# Altium footprint library Conn.Misc.PcbLib: 57 footprints (part 4 of 4)
Each footprint in its own frame and in the unit in brackets; x right, y up, seen from the top. Pads: shape width x height; smd on the part's side, far side on the other; paste and mask are expansions set on the pad; w line width, h text height; cw(c..) or ccw(c..) is an arc to the next point about the centre after c.
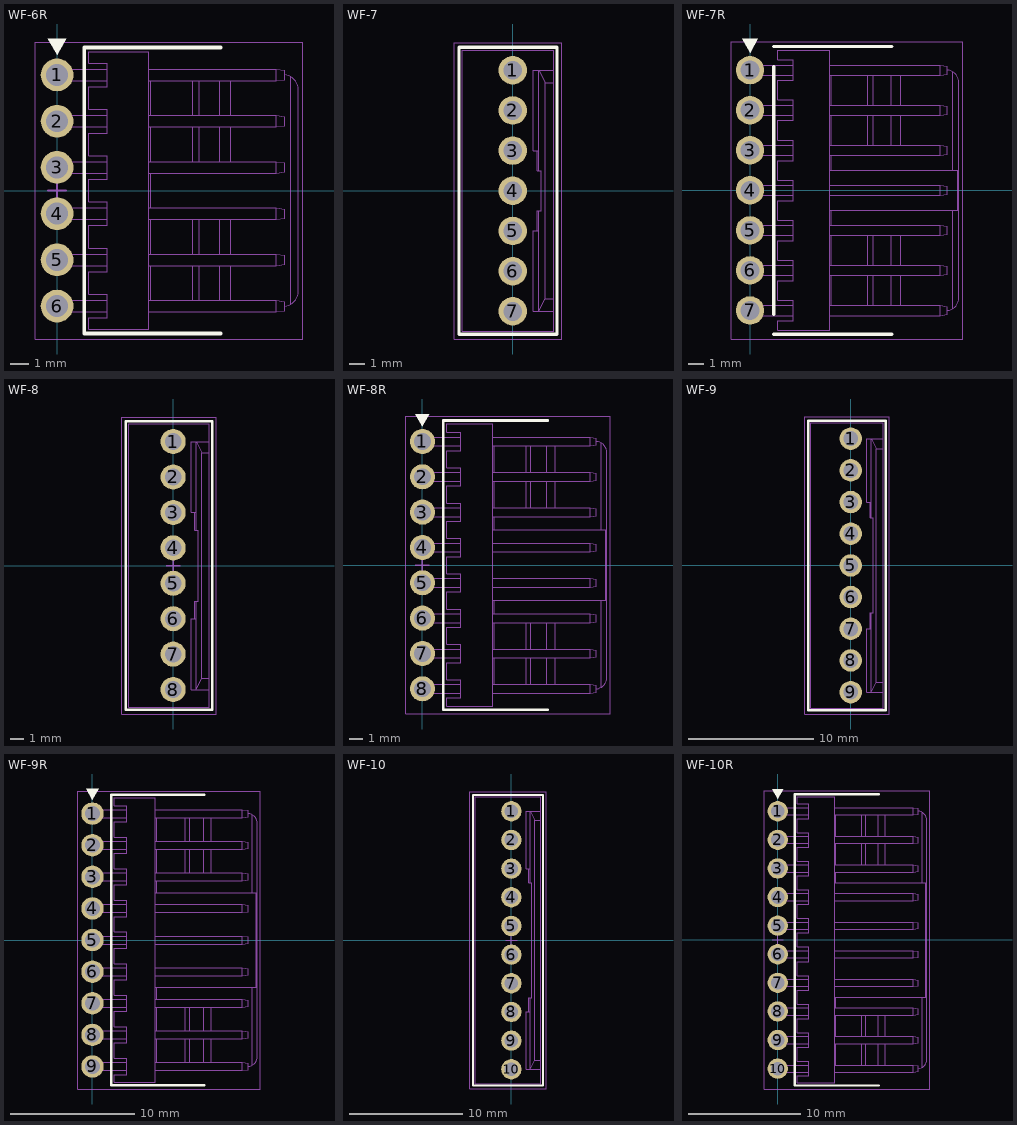
[diagram p3: the footprints below, top view; thin cyan lines are the x and y axes]

## WF-6R [mm] "WF Header, 6-Lead, 2.54mm Pitch, Right-Angle Mount"
height 5.8
pads (6):
  round 1.8 hole 1.2: 1(0,6.35) 2(0,3.81) 3(0,1.27) 4(0,-1.27) 5(0,-3.81) 6(0,-6.35)
Top Overlay:
  region: 0,7.46 -0.5,8.326 0.5,8.326
  lines w0.2: 9,-7.86 1.5,-7.86 1.5,7.86 9,7.86
Mechanical 1:
  lines w0.05: 0.5,-6.67 0.5,-6.03 ; 0.5,-4.13 0.5,-3.49 ; 0.5,-1.59 0.5,-0.95 ; 0.5,0.95 0.5,1.59 ; 0.5,3.49 0.5,4.13 ; 0.5,6.03 0.5,6.67 ; 2.75,-6.67 -0.32,-6.67 -0.32,-6.03 2.75,-6.03 ; 2.75,-4.13 -0.32,-4.13 -0.32,-3.49 2.75,-3.49 ; 2.75,-1.59 -0.32,-1.59 -0.32,-0.95 2.75,-0.95 ; 2.75,0.95 -0.32,0.95 -0.32,1.59 2.75,1.59 ; 2.75,3.49 -0.32,3.49 -0.32,4.13 2.75,4.13 ; 2.75,6.03 -0.32,6.03 -0.32,6.67 2.75,6.67 ; 5.05,-6.67 12.05,-6.67 ; 5.05,-6.03 12.05,-6.03 ; 5.05,-4.13 12.05,-4.13 ; 5.05,-3.49 12.05,-3.49 ; 5.05,-1.59 12.05,-1.59 ; 5.05,-0.95 12.05,-0.95 ; 5.05,0.95 12.05,0.95 ; 5.05,1.59 12.05,1.59 ; 5.05,3.49 12.05,3.49 ; 5.05,4.13 12.05,4.13 ; 5.05,6.03 12.05,6.03 ; 5.05,6.67 12.05,6.67 ; 5.15,-6.03 5.15,-4.13 ; 5.15,-3.49 5.15,-1.59 ; 5.15,-0.95 5.15,0.95 ; 5.15,1.59 5.15,3.49 ; 5.15,4.13 5.15,6.03 ; 7.45,-6.03 7.45,-4.13 ; 7.45,-3.49 7.45,-1.59 ; 7.45,1.59 7.45,3.49 ; 7.45,4.13 7.45,6.03 ; 7.8,-6.03 7.8,-4.13 ; 7.8,-3.49 7.8,-1.59 ; 7.8,1.59 7.8,3.49 ; 7.8,4.13 7.8,6.03 ; 8.944,-6.03 8.944,-4.13 ; 8.944,-3.49 8.944,-1.59 ; 8.944,1.59 8.944,3.49 ; 8.944,4.13 8.944,6.03 ; 9.55,-6.03 9.55,-4.13 ; 9.55,-3.49 9.55,-1.59 ; 9.55,1.59 9.55,3.49 ; 9.55,4.13 9.55,6.03 ; 12.5,-6.348 ccw(c12.45,-5.55) 12.85,-6.243 ; 12.5,6.349 cw(c12.45,5.55) 12.85,6.243 ; 12.05,-6.67 12.5,-6.6 12.5,-6.1 12.05,-6.03 ; 12.05,-6.67 12.05,-6.03 ; 12.05,-4.13 12.05,-3.49 ; 12.05,-4.13 12.5,-4.06 12.5,-3.56 12.05,-3.49 ; 12.05,-1.59 12.05,-0.95 ; 12.05,-1.59 12.5,-1.52 12.5,-1.02 12.05,-0.95 ; 12.05,0.95 12.05,1.59 ; 12.05,0.95 12.5,1.02 12.5,1.52 12.05,1.59 ; 12.05,3.49 12.05,4.13 ; 12.05,3.49 12.5,3.56 12.5,4.06 12.05,4.13 ; 12.05,6.03 12.5,6.1 12.5,6.6 12.05,6.67 ; 12.05,6.03 12.05,6.67 ; 12.85,-6.243 ccw(c12.45,-5.55) 13.25,-5.55 13.25,5.55 ccw(c12.45,5.55) 12.85,6.243 ; 12.85,-6.243 12.85,6.243 ; 1.75,-7.62 1.75,-7 2.75,-7 2.75,-5.7 1.75,-5.7 1.75,-4.46 2.75,-4.46 2.75,-3.16 1.75,-3.16 1.75,-1.92 2.75,-1.92 2.75,-0.62 1.75,-0.62 1.75,0.62 2.75,0.62 2.75,1.92 1.75,1.92 1.75,3.16 2.75,3.16 2.75,4.46 1.75,4.46 1.75,5.7 2.75,5.7 2.75,7 1.75,7 1.75,7.62 5.05,7.62 5.05,-7.62 1.75,-7.62
Mechanical 15:
  lines w0.05: -1.2,-8.16 13.5,-8.16 13.5,8.16 -1.2,8.16 -1.2,-8.16
  lines w0.1: -0.5,0 0.5,0 ; 0,-0.5 0,0.5
3D body "CI3106P1H00-NH.STEP": height 5.8, standoff -3.4, extent -0.32,-7.62 13.25,7.62

## WF-7 [mm] "WF Header, 7-Lead, 2.54mm Pitch"
height 11.5
pads (7):
  round 1.8 hole 1.2: 1(0,7.62) 2(0,5.08) 3(0,2.54) 4(0,0) 5(0,-2.54) 6(0,-5.08) 7(0,-7.62)
Top Overlay:
  lines w0.2: -3.4,-9.07 2.8,-9.07 2.8,9.07 -3.4,9.07 -3.4,-9.07
Bottom Overlay:
  region: 0,8.73 -0.5,9.596 0.5,9.596
Mechanical 1:
  lines w0.05: 1.55,-2.54 1.55,-1.27 1.8,-1.27 1.8,1.27 1.55,1.27 1.55,2.54 ; 1.65,-2.54 1.3,-2.54 1.3,-7.62 2.6,-7.62 ; 1.65,-1.27 1.65,-7.62 2.05,-6.82 ; 1.65,1.27 1.65,7.62 2.05,6.82 ; 1.65,2.54 1.3,2.54 1.3,7.62 2.6,7.62 ; 2.6,-6.82 2.05,-6.82 ; 2.6,6.82 2.05,6.82 ; -0.32,-7.94 -0.32,-7.3 ; -0.32,-7.94 -0.25,-7.87 ; -0.32,-7.94 0.32,-7.94 ; -0.32,-7.3 -0.25,-7.37 ; -0.32,-7.3 0.32,-7.3 ; -0.32,-5.4 -0.32,-4.76 ; -0.32,-5.4 -0.25,-5.33 ; -0.32,-5.4 0.32,-5.4 ; -0.32,-4.76 -0.25,-4.83 ; -0.32,-4.76 0.32,-4.76 ; -0.32,-2.86 -0.32,-2.22 ; -0.32,-2.86 -0.25,-2.79 ; -0.32,-2.86 0.32,-2.86 ; -0.32,-2.22 0.32,-2.22 ; -0.32,-2.22 -0.25,-2.29 ; -0.32,-0.32 -0.32,0.32 ; -0.32,-0.32 -0.25,-0.25 ; -0.32,-0.32 0.32,-0.32 ; -0.32,0.32 -0.25,0.25 ; -0.32,0.32 0.32,0.32 ; -0.32,2.22 -0.32,2.86 ; -0.32,2.22 -0.25,2.29 ; -0.32,2.22 0.32,2.22 ; -0.32,2.86 -0.25,2.79 ; -0.32,2.86 0.32,2.86 ; -0.32,4.76 -0.32,5.4 ; -0.32,4.76 -0.25,4.83 ; -0.32,4.76 0.32,4.76 ; -0.32,5.4 -0.25,5.33 ; -0.32,5.4 0.32,5.4 ; -0.32,7.3 -0.32,7.94 ; -0.32,7.3 -0.25,7.37 ; -0.32,7.3 0.32,7.3 ; -0.32,7.94 -0.25,7.87 ; -0.32,7.94 0.32,7.94 ; -0.25,-7.87 -0.25,-7.37 ; -0.25,-7.87 0.25,-7.87 ; -0.25,-7.37 0.25,-7.37 ; -0.25,-5.33 -0.25,-4.83 ; -0.25,-5.33 0.25,-5.33 ; -0.25,-4.83 0.25,-4.83 ; -0.25,-2.79 -0.25,-2.29 ; -0.25,-2.79 0.25,-2.79 ; -0.25,-2.29 0.25,-2.29 ; -0.25,-0.25 -0.25,0.25 ; -0.25,-0.25 0.25,-0.25 ; -0.25,0.25 0.25,0.25 ; -0.25,2.29 -0.25,2.79 ; -0.25,2.29 0.25,2.29 ; -0.25,2.79 0.25,2.79 ; -0.25,4.83 -0.25,5.33 ; -0.25,4.83 0.25,4.83 ; -0.25,5.33 0.25,5.33 ; -0.25,7.37 -0.25,7.87 ; -0.25,7.37 0.25,7.37 ; -0.25,7.87 0.25,7.87 ; 0.25,-7.87 0.25,-7.37 ; 0.25,-7.87 0.32,-7.94 ; 0.25,-7.37 0.32,-7.3 ; 0.25,-5.33 0.25,-4.83 ; 0.25,-5.33 0.32,-5.4 ; 0.25,-4.83 0.32,-4.76 ; 0.25,-2.79 0.25,-2.29 ; 0.25,-2.79 0.32,-2.86 ; 0.25,-2.29 0.32,-2.22 ; 0.25,-0.25 0.25,0.25 ; 0.25,-0.25 0.32,-0.32 ; 0.25,0.25 0.32,0.32 ; 0.25,2.29 0.25,2.79 ; 0.25,2.29 0.32,2.22 ; 0.25,2.79 0.32,2.86 ; 0.25,4.83 0.25,5.33 ; 0.25,4.83 0.32,4.76 ; 0.25,5.33 0.32,5.4 ; 0.25,7.37 0.25,7.87 ; 0.25,7.37 0.32,7.3 ; 0.25,7.87 0.32,7.94 ; 0.32,-7.94 0.32,-7.3 ; 0.32,-5.4 0.32,-4.76 ; 0.32,-2.86 0.32,-2.22 ; 0.32,-0.32 0.32,0.32 ; 0.32,2.22 0.32,2.86 ; 0.32,4.76 0.32,5.4 ; 0.32,7.3 0.32,7.94 ; 2.05,-6.82 2.05,6.82 ; -3.2,-8.89 2.6,-8.89 2.6,8.89 -3.2,8.89 -3.2,-8.89
Mechanical 15:
  lines w0.05: -3.7,-9.37 3.1,-9.37 3.1,9.37 -3.7,9.37 -3.7,-9.37
  lines w0.1: -0.5,0 0.5,0 ; 0,-0.5 0,0.5
3D body "CI3107P1V00.STEP": height 11.5, standoff -3.4, extent -3.2,-8.89 2.6,8.89

## WF-7R [mm] "WF Header, 6-Lead, 2.54mm Pitch, Right-Angle Mount"
height 5.8
pads (7):
  round 1.8 hole 1.2: 1(0,7.62) 2(0,5.08) 3(0,2.54) 4(0,0) 5(0,-2.54) 6(0,-5.08) 7(0,-7.62)
Top Overlay:
  region: 0,8.73 -0.5,9.596 0.5,9.596
  lines w0.2: 1.5,-9.13 9,-9.13 ; 1.5,-7.86 1.5,7.86 ; 1.5,9.13 9,9.13
Mechanical 1:
  lines w0.05: 0.5,-7.94 0.5,-7.3 ; 0.5,-5.4 0.5,-4.76 ; 0.5,-2.86 0.5,-2.22 ; 0.5,-0.32 0.5,0.32 ; 0.5,2.22 0.5,2.86 ; 0.5,4.76 0.5,5.4 ; 0.5,7.3 0.5,7.94 ; 2.75,-7.94 -0.32,-7.94 -0.32,-7.3 2.75,-7.3 ; 2.75,-5.4 -0.32,-5.4 -0.32,-4.76 2.75,-4.76 ; 2.75,-2.86 -0.32,-2.86 -0.32,-2.22 2.75,-2.22 ; 2.75,-0.32 -0.32,-0.32 -0.32,0.32 2.75,0.32 ; 2.75,2.22 -0.32,2.22 -0.32,2.86 2.75,2.86 ; 2.75,4.76 -0.32,4.76 -0.32,5.4 2.75,5.4 ; 2.75,7.3 -0.32,7.3 -0.32,7.94 2.75,7.94 ; 5.05,-7.94 12.05,-7.94 ; 5.05,-7.3 12.05,-7.3 ; 5.05,-5.4 12.05,-5.4 ; 5.05,-4.76 12.05,-4.76 ; 5.05,-2.86 12.05,-2.86 ; 5.05,-2.22 12.05,-2.22 ; 5.05,-1.27 13.162,-1.27 13.162,1.27 5.05,1.27 ; 5.05,-0.32 12.05,-0.32 ; 5.05,0.32 12.05,0.32 ; 5.05,2.22 12.05,2.22 ; 5.05,2.86 12.05,2.86 ; 5.05,4.76 12.05,4.76 ; 5.05,5.4 12.05,5.4 ; 5.05,7.3 12.05,7.3 ; 5.05,7.94 12.05,7.94 ; 5.15,-7.3 5.15,-5.4 ; 5.15,-4.76 5.15,-2.86 ; 5.15,-2.22 5.15,-1.27 ; 5.15,1.27 5.15,2.22 ; 5.15,2.86 5.15,4.76 ; 5.15,5.4 5.15,7.3 ; 7.45,-7.3 7.45,-5.4 ; 7.45,-4.76 7.45,-2.86 ; 7.45,2.86 7.45,4.76 ; 7.45,5.4 7.45,7.3 ; 7.8,-7.3 7.8,-5.4 ; 7.8,-4.76 7.8,-2.86 ; 7.8,2.86 7.8,4.76 ; 7.8,5.4 7.8,7.3 ; 8.944,-7.3 8.944,-5.4 ; 8.944,-4.76 8.944,-2.86 ; 8.944,2.86 8.944,4.76 ; 8.944,5.4 8.944,7.3 ; 9.55,-7.3 9.55,-5.4 ; 9.55,-4.76 9.55,-2.86 ; 9.55,2.86 9.55,4.76 ; 9.55,5.4 9.55,7.3 ; 12.5,-7.618 ccw(c12.45,-6.82) 13.25,-6.82 13.25,6.82 ccw(c12.45,6.82) 12.5,7.619 ; 12.85,-7.513 12.85,-1.27 ; 12.85,1.27 12.85,7.513 ; 12.05,-7.94 12.05,-7.3 ; 12.05,-7.94 12.5,-7.87 12.5,-7.37 12.05,-7.3 ; 12.05,-5.4 12.5,-5.33 12.5,-4.83 12.05,-4.76 ; 12.05,-5.4 12.05,-4.76 ; 12.05,-2.86 12.05,-2.22 ; 12.05,-2.86 12.5,-2.79 12.5,-2.29 12.05,-2.22 ; 12.05,-0.32 12.5,-0.25 12.5,0.25 12.05,0.32 ; 12.05,-0.32 12.05,0.32 ; 12.05,2.22 12.5,2.29 12.5,2.79 12.05,2.86 ; 12.05,2.22 12.05,2.86 ; 12.05,4.76 12.5,4.83 12.5,5.33 12.05,5.4 ; 12.05,4.76 12.05,5.4 ; 12.05,7.3 12.5,7.37 12.5,7.87 12.05,7.94 ; 12.05,7.3 12.05,7.94 ; 1.75,-8.89 5.05,-8.89 5.05,8.89 1.75,8.89 1.75,8.27 2.75,8.27 2.75,6.97 1.75,6.97 1.75,5.73 2.75,5.73 2.75,4.43 1.75,4.43 1.75,3.19 2.75,3.19 2.75,1.89 1.75,1.89 1.75,0.65 2.75,0.65 2.75,-0.65 1.75,-0.65 1.75,-1.89 2.75,-1.89 2.75,-3.19 1.75,-3.19 1.75,-4.43 2.75,-4.43 2.75,-5.73 1.75,-5.73 1.75,-6.97 2.75,-6.97 2.75,-8.27 1.75,-8.27 1.75,-8.89
Mechanical 15:
  lines w0.05: -1.2,-9.43 -1.2,9.43 13.5,9.43 13.5,-9.43 -1.2,-9.43
  lines w0.1: -0.5,0 0.5,0 ; 0,-0.5 0,0.5
3D body "CI3107P1H00-NH.STEP": height 5.8, standoff -3.4, extent -0.32,-8.89 13.25,8.89

## WF-8 [mm] "WF Header, 8-Lead, 2.54mm Pitch"
height 11.5
pads (8):
  round 1.8 hole 1.2: 1(0,8.89) 2(0,6.35) 3(0,3.81) 4(0,1.27) 5(0,-1.27) 6(0,-3.81) 7(0,-6.35) 8(0,-8.89)
Top Overlay:
  lines w0.2: -3.4,-10.34 -3.4,10.34 2.8,10.34 2.8,-10.34 -3.4,-10.34
Bottom Overlay:
  region: 0,10 -0.5,10.866 0.5,10.866
Mechanical 1:
  lines w0.05: 1.55,-3.81 1.55,-2.54 1.8,-2.54 1.8,2.54 1.55,2.54 1.55,3.81 ; 1.65,-3.81 1.3,-3.81 1.3,-8.89 2.6,-8.89 ; 1.65,-2.54 1.65,-8.89 2.05,-8.09 ; 1.65,2.54 1.65,8.89 2.05,8.09 ; 1.65,3.81 1.3,3.81 1.3,8.89 2.6,8.89 ; 2.6,-8.09 2.05,-8.09 ; 2.6,8.09 2.05,8.09 ; -0.32,-9.21 -0.32,-8.57 ; -0.32,-9.21 -0.25,-9.14 ; -0.32,-9.21 0.32,-9.21 ; -0.32,-8.57 -0.25,-8.64 ; -0.32,-8.57 0.32,-8.57 ; -0.32,-6.67 -0.32,-6.03 ; -0.32,-6.67 -0.25,-6.6 ; -0.32,-6.67 0.32,-6.67 ; -0.32,-6.03 0.32,-6.03 ; -0.32,-6.03 -0.25,-6.1 ; -0.32,-4.13 -0.32,-3.49 ; -0.32,-4.13 -0.25,-4.06 ; -0.32,-4.13 0.32,-4.13 ; -0.32,-3.49 0.32,-3.49 ; -0.32,-3.49 -0.25,-3.56 ; -0.32,-1.59 -0.32,-0.95 ; -0.32,-1.59 -0.25,-1.52 ; -0.32,-1.59 0.32,-1.59 ; -0.32,-0.95 -0.25,-1.02 ; -0.32,-0.95 0.32,-0.95 ; -0.32,0.95 -0.32,1.59 ; -0.32,0.95 -0.25,1.02 ; -0.32,0.95 0.32,0.95 ; -0.32,1.59 -0.25,1.52 ; -0.32,1.59 0.32,1.59 ; -0.32,3.49 -0.32,4.13 ; -0.32,3.49 -0.25,3.56 ; -0.32,3.49 0.32,3.49 ; -0.32,4.13 -0.25,4.06 ; -0.32,4.13 0.32,4.13 ; -0.32,6.03 -0.32,6.67 ; -0.32,6.03 -0.25,6.1 ; -0.32,6.03 0.32,6.03 ; -0.32,6.67 -0.25,6.6 ; -0.32,6.67 0.32,6.67 ; -0.32,8.57 -0.32,9.21 ; -0.32,8.57 -0.25,8.64 ; -0.32,8.57 0.32,8.57 ; -0.32,9.21 -0.25,9.14 ; -0.32,9.21 0.32,9.21 ; -0.25,-9.14 0.25,-9.14 ; -0.25,-9.14 -0.25,-8.64 ; -0.25,-8.64 0.25,-8.64 ; -0.25,-6.6 -0.25,-6.1 ; -0.25,-6.6 0.25,-6.6 ; -0.25,-6.1 0.25,-6.1 ; -0.25,-4.06 -0.25,-3.56 ; -0.25,-4.06 0.25,-4.06 ; -0.25,-3.56 0.25,-3.56 ; -0.25,-1.52 0.25,-1.52 ; -0.25,-1.52 -0.25,-1.02 ; -0.25,-1.02 0.25,-1.02 ; -0.25,1.02 -0.25,1.52 ; -0.25,1.02 0.25,1.02 ; -0.25,1.52 0.25,1.52 ; -0.25,3.56 -0.25,4.06 ; -0.25,3.56 0.25,3.56 ; -0.25,4.06 0.25,4.06 ; -0.25,6.1 -0.25,6.6 ; -0.25,6.1 0.25,6.1 ; -0.25,6.6 0.25,6.6 ; -0.25,8.64 -0.25,9.14 ; -0.25,8.64 0.25,8.64 ; -0.25,9.14 0.25,9.14 ; 0.25,-9.14 0.25,-8.64 ; 0.25,-9.14 0.32,-9.21 ; 0.25,-8.64 0.32,-8.57 ; 0.25,-6.6 0.25,-6.1 ; 0.25,-6.6 0.32,-6.67 ; 0.25,-6.1 0.32,-6.03 ; 0.25,-4.06 0.25,-3.56 ; 0.25,-4.06 0.32,-4.13 ; 0.25,-3.56 0.32,-3.49 ; 0.25,-1.52 0.25,-1.02 ; 0.25,-1.52 0.32,-1.59 ; 0.25,-1.02 0.32,-0.95 ; 0.25,1.02 0.25,1.52 ; 0.25,1.02 0.32,0.95 ; 0.25,1.52 0.32,1.59 ; 0.25,3.56 0.25,4.06 ; 0.25,3.56 0.32,3.49 ; 0.25,4.06 0.32,4.13 ; 0.25,6.1 0.25,6.6 ; 0.25,6.1 0.32,6.03 ; 0.25,6.6 0.32,6.67 ; 0.25,8.64 0.25,9.14 ; 0.25,8.64 0.32,8.57 ; 0.25,9.14 0.32,9.21 ; 0.32,-9.21 0.32,-8.57 ; 0.32,-6.67 0.32,-6.03 ; 0.32,-4.13 0.32,-3.49 ; 0.32,-1.59 0.32,-0.95 ; 0.32,0.95 0.32,1.59 ; 0.32,3.49 0.32,4.13 ; 0.32,6.03 0.32,6.67 ; 0.32,8.57 0.32,9.21 ; 2.05,-8.09 2.05,8.09 ; -3.2,-10.16 2.6,-10.16 2.6,10.16 -3.2,10.16 -3.2,-10.16
Mechanical 15:
  lines w0.05: -3.7,-10.64 -3.7,10.64 3.1,10.64 3.1,-10.64 -3.7,-10.64
  lines w0.1: -0.5,0 0.5,0 ; 0,-0.5 0,0.5
3D body "CI3108P1V00.STEP": height 11.5, standoff -3.4, extent -3.2,-10.16 2.6,10.16

## WF-8R [mm] "WF Header, 8-Lead, 2.54mm Pitch, Right-Angle Mount"
height 5.8
pads (8):
  round 1.8 hole 1.2: 1(0,8.89) 2(0,6.35) 3(0,3.81) 4(0,1.27) 5(0,-1.27) 6(0,-3.81) 7(0,-6.35) 8(0,-8.89)
Top Overlay:
  region: 0,10 -0.5,10.866 0.5,10.866
  lines w0.2: 9,-10.4 1.5,-10.4 1.5,10.4 9,10.4
Mechanical 1:
  lines w0.05: 0.5,-9.21 0.5,-8.57 ; 0.5,-6.67 0.5,-6.03 ; 0.5,-4.13 0.5,-3.49 ; 0.5,-1.59 0.5,-0.95 ; 0.5,0.95 0.5,1.59 ; 0.5,3.49 0.5,4.13 ; 0.5,6.03 0.5,6.67 ; 0.5,8.57 0.5,9.21 ; 2.75,-9.21 -0.32,-9.21 -0.32,-8.57 2.75,-8.57 ; 2.75,-6.67 -0.32,-6.67 -0.32,-6.03 2.75,-6.03 ; 2.75,-4.13 -0.32,-4.13 -0.32,-3.49 2.75,-3.49 ; 2.75,-1.59 -0.32,-1.59 -0.32,-0.95 2.75,-0.95 ; 2.75,0.95 -0.32,0.95 -0.32,1.59 2.75,1.59 ; 2.75,3.49 -0.32,3.49 -0.32,4.13 2.75,4.13 ; 2.75,6.03 -0.32,6.03 -0.32,6.67 2.75,6.67 ; 2.75,8.57 -0.32,8.57 -0.32,9.21 2.75,9.21 ; 5.05,-9.21 12.05,-9.21 ; 5.05,-8.57 12.05,-8.57 ; 5.05,-6.67 12.05,-6.67 ; 5.05,-6.03 12.05,-6.03 ; 5.05,-4.13 12.05,-4.13 ; 5.05,-3.49 12.05,-3.49 ; 5.05,-2.54 13.162,-2.54 13.162,2.54 5.05,2.54 ; 5.05,-1.59 12.05,-1.59 ; 5.05,-0.95 12.05,-0.95 ; 5.05,0.95 12.05,0.95 ; 5.05,1.59 12.05,1.59 ; 5.05,3.49 12.05,3.49 ; 5.05,4.13 12.05,4.13 ; 5.05,6.03 12.05,6.03 ; 5.05,6.67 12.05,6.67 ; 5.05,8.57 12.05,8.57 ; 5.05,9.21 12.05,9.21 ; 5.15,-8.57 5.15,-6.67 ; 5.15,-6.03 5.15,-4.13 ; 5.15,-3.49 5.15,-2.54 ; 5.15,2.54 5.15,3.49 ; 5.15,4.13 5.15,6.03 ; 5.15,6.67 5.15,8.57 ; 7.45,-8.57 7.45,-6.67 ; 7.45,-6.03 7.45,-4.13 ; 7.45,4.13 7.45,6.03 ; 7.45,6.67 7.45,8.57 ; 7.8,-8.57 7.8,-6.67 ; 7.8,-6.03 7.8,-4.13 ; 7.8,4.13 7.8,6.03 ; 7.8,6.67 7.8,8.57 ; 8.944,-8.57 8.944,-6.67 ; 8.944,-6.03 8.944,-4.13 ; 8.944,4.13 8.944,6.03 ; 8.944,6.67 8.944,8.57 ; 9.55,-8.57 9.55,-6.67 ; 9.55,-6.03 9.55,-4.13 ; 9.55,4.13 9.55,6.03 ; 9.55,6.67 9.55,8.57 ; 12.5,-8.888 ccw(c12.45,-8.09) 13.25,-8.09 13.25,8.09 ccw(c12.45,8.09) 12.5,8.889 ; 12.85,-8.783 12.85,-2.54 ; 12.85,2.54 12.85,8.783 ; 12.05,-9.21 12.05,-8.57 ; 12.05,-9.21 12.5,-9.14 12.5,-8.64 12.05,-8.57 ; 12.05,-6.67 12.05,-6.03 ; 12.05,-6.67 12.5,-6.6 12.5,-6.1 12.05,-6.03 ; 12.05,-4.13 12.05,-3.49 ; 12.05,-4.13 12.5,-4.06 12.5,-3.56 12.05,-3.49 ; 12.05,-1.59 12.5,-1.52 12.5,-1.02 12.05,-0.95 ; 12.05,-1.59 12.05,-0.95 ; 12.05,0.95 12.05,1.59 ; 12.05,0.95 12.5,1.02 12.5,1.52 12.05,1.59 ; 12.05,3.49 12.05,4.13 ; 12.05,3.49 12.5,3.56 12.5,4.06 12.05,4.13 ; 12.05,6.03 12.5,6.1 12.5,6.6 12.05,6.67 ; 12.05,6.03 12.05,6.67 ; 12.05,8.57 12.05,9.21 ; 12.05,8.57 12.5,8.64 12.5,9.14 12.05,9.21 ; 1.75,-10.16 1.75,-9.54 2.75,-9.54 2.75,-8.24 1.75,-8.24 1.75,-7 2.75,-7 2.75,-5.7 1.75,-5.7 1.75,-4.46 2.75,-4.46 2.75,-3.16 1.75,-3.16 1.75,-1.92 2.75,-1.92 2.75,-0.62 1.75,-0.62 1.75,0.62 2.75,0.62 2.75,1.92 1.75,1.92 1.75,3.16 2.75,3.16 2.75,4.46 1.75,4.46 1.75,5.7 2.75,5.7 2.75,7 1.75,7 1.75,8.24 2.75,8.24 2.75,9.54 1.75,9.54 1.75,10.16 5.05,10.16 5.05,-10.16 1.75,-10.16
Mechanical 15:
  lines w0.05: -1.2,-10.7 -1.2,10.7 13.5,10.7 13.5,-10.7 -1.2,-10.7
  lines w0.1: -0.5,0 0.5,0 ; 0,-0.5 0,0.5
3D body "CI3108P1H00-NH.STEP": height 5.8, standoff -3.4, extent -0.32,-10.16 13.25,10.16

## WF-9 [mm] "WF Header, 9-Lead, 2.54mm Pitch"
height 11.5
pads (9):
  round 1.8 hole 1.2: 1(0,10.16) 2(0,7.62) 3(0,5.08) 4(0,2.54) 5(0,0) 6(0,-2.54) 7(0,-5.08) 8(0,-7.62) 9(0,-10.16)
Top Overlay:
  lines w0.2: -3.4,-11.61 2.8,-11.61 2.8,11.61 -3.4,11.61 -3.4,-11.61
Bottom Overlay:
  region: 0,11.27 -0.5,12.136 0.5,12.136
Mechanical 1:
  lines w0.05: 1.55,-5.08 1.55,-3.81 1.8,-3.81 1.8,3.81 1.55,3.81 1.55,5.08 ; 1.65,-5.08 1.3,-5.08 1.3,-10.16 2.6,-10.16 ; 1.65,-3.81 1.65,-10.16 2.05,-9.36 ; 1.65,3.81 1.65,10.16 2.05,9.36 ; 1.65,5.08 1.3,5.08 1.3,10.16 2.6,10.16 ; 2.6,-9.36 2.05,-9.36 ; 2.6,9.36 2.05,9.36 ; -0.32,-10.48 0.32,-10.48 ; -0.32,-10.48 -0.25,-10.41 ; -0.32,-10.48 -0.32,-9.84 ; -0.32,-9.84 0.32,-9.84 ; -0.32,-9.84 -0.25,-9.91 ; -0.32,-7.94 0.32,-7.94 ; -0.32,-7.94 -0.25,-7.87 ; -0.32,-7.94 -0.32,-7.3 ; -0.32,-7.3 -0.25,-7.37 ; -0.32,-7.3 0.32,-7.3 ; -0.32,-5.4 0.32,-5.4 ; -0.32,-5.4 -0.25,-5.33 ; -0.32,-5.4 -0.32,-4.76 ; -0.32,-4.76 0.32,-4.76 ; -0.32,-4.76 -0.25,-4.83 ; -0.32,-2.86 0.32,-2.86 ; -0.32,-2.86 -0.25,-2.79 ; -0.32,-2.86 -0.32,-2.22 ; -0.32,-2.22 0.32,-2.22 ; -0.32,-2.22 -0.25,-2.29 ; -0.32,-0.32 0.32,-0.32 ; -0.32,-0.32 -0.25,-0.25 ; -0.32,-0.32 -0.32,0.32 ; -0.32,0.32 -0.25,0.25 ; -0.32,0.32 0.32,0.32 ; -0.32,2.22 0.32,2.22 ; -0.32,2.22 -0.25,2.29 ; -0.32,2.22 -0.32,2.86 ; -0.32,2.86 0.32,2.86 ; -0.32,2.86 -0.25,2.79 ; -0.32,4.76 0.32,4.76 ; -0.32,4.76 -0.25,4.83 ; -0.32,4.76 -0.32,5.4 ; -0.32,5.4 0.32,5.4 ; -0.32,5.4 -0.25,5.33 ; -0.32,7.3 0.32,7.3 ; -0.32,7.3 -0.25,7.37 ; -0.32,7.3 -0.32,7.94 ; -0.32,7.94 0.32,7.94 ; -0.32,7.94 -0.25,7.87 ; -0.32,9.84 0.32,9.84 ; -0.32,9.84 -0.25,9.91 ; -0.32,9.84 -0.32,10.48 ; -0.32,10.48 -0.25,10.41 ; -0.32,10.48 0.32,10.48 ; -0.25,-10.41 0.25,-10.41 ; -0.25,-10.41 -0.25,-9.91 ; -0.25,-9.91 0.25,-9.91 ; -0.25,-7.87 -0.25,-7.37 ; -0.25,-7.87 0.25,-7.87 ; -0.25,-7.37 0.25,-7.37 ; -0.25,-5.33 0.25,-5.33 ; -0.25,-5.33 -0.25,-4.83 ; -0.25,-4.83 0.25,-4.83 ; -0.25,-2.79 -0.25,-2.29 ; -0.25,-2.79 0.25,-2.79 ; -0.25,-2.29 0.25,-2.29 ; -0.25,-0.25 -0.25,0.25 ; -0.25,-0.25 0.25,-0.25 ; -0.25,0.25 0.25,0.25 ; -0.25,2.29 0.25,2.29 ; -0.25,2.29 -0.25,2.79 ; -0.25,2.79 0.25,2.79 ; -0.25,4.83 -0.25,5.33 ; -0.25,4.83 0.25,4.83 ; -0.25,5.33 0.25,5.33 ; -0.25,7.37 0.25,7.37 ; -0.25,7.37 -0.25,7.87 ; -0.25,7.87 0.25,7.87 ; -0.25,9.91 -0.25,10.41 ; -0.25,9.91 0.25,9.91 ; -0.25,10.41 0.25,10.41 ; 0.25,-10.41 0.32,-10.48 ; 0.25,-10.41 0.25,-9.91 ; 0.25,-9.91 0.32,-9.84 ; 0.25,-7.87 0.32,-7.94 ; 0.25,-7.87 0.25,-7.37 ; 0.25,-7.37 0.32,-7.3 ; 0.25,-5.33 0.32,-5.4 ; 0.25,-5.33 0.25,-4.83 ; 0.25,-4.83 0.32,-4.76 ; 0.25,-2.79 0.32,-2.86 ; 0.25,-2.79 0.25,-2.29 ; 0.25,-2.29 0.32,-2.22 ; 0.25,-0.25 0.32,-0.32 ; 0.25,-0.25 0.25,0.25 ; 0.25,0.25 0.32,0.32 ; 0.25,2.29 0.32,2.22 ; 0.25,2.29 0.25,2.79 ; 0.25,2.79 0.32,2.86 ; 0.25,4.83 0.32,4.76 ; 0.25,4.83 0.25,5.33 ; 0.25,5.33 0.32,5.4 ; 0.25,7.37 0.32,7.3 ; 0.25,7.37 0.25,7.87 ; 0.25,7.87 0.32,7.94 ; 0.25,9.91 0.32,9.84 ; 0.25,9.91 0.25,10.41 ; 0.25,10.41 0.32,10.48 ; 0.32,-10.48 0.32,-9.84 ; 0.32,-7.94 0.32,-7.3 ; 0.32,-5.4 0.32,-4.76 ; 0.32,-2.86 0.32,-2.22 ; 0.32,-0.32 0.32,0.32 ; 0.32,2.22 0.32,2.86 ; 0.32,4.76 0.32,5.4 ; 0.32,7.3 0.32,7.94 ; 0.32,9.84 0.32,10.48 ; 2.05,-9.36 2.05,9.36 ; -3.2,-11.43 -3.2,11.43 2.6,11.43 2.6,-11.43 -3.2,-11.43
Mechanical 15:
  lines w0.05: -3.7,-11.91 3.1,-11.91 3.1,11.91 -3.7,11.91 -3.7,-11.91
  lines w0.1: -0.5,0 0.5,0 ; 0,-0.5 0,0.5
3D body "CI3109P1V00.STEP": height 11.5, standoff -3.4, extent -3.2,-11.43 2.6,11.43

## WF-9R [mm] "WF Header, 9-Lead, 2.54mm Pitch, Right-Angle Mount"
height 5.8
pads (9):
  round 1.8 hole 1.2: 1(0,10.16) 2(0,7.62) 3(0,5.08) 4(0,2.54) 5(0,0) 6(0,-2.54) 7(0,-5.08) 8(0,-7.62) 9(0,-10.16)
Top Overlay:
  region: 0,11.27 -0.5,12.136 0.5,12.136
  lines w0.2: 9,-11.67 1.5,-11.67 1.5,11.67 9,11.67
Mechanical 1:
  drawing of 160 lines, arcs and shapes, not listed
Mechanical 15:
  lines w0.05: -1.2,-11.97 -1.2,11.97 13.5,11.97 13.5,-11.97 -1.2,-11.97
  lines w0.1: -0.5,0 0.5,0 ; 0,-0.5 0,0.5
3D body "CI3109P1H00-NH.STEP": height 5.8, standoff -3.4, extent -0.32,-11.43 13.25,11.43

## WF-10 [mm] "WF Header, 10-Lead, 2.54mm Pitch"
height 11.5
pads (10):
  round 1.8 hole 1.2: 1(0,11.43) 2(0,8.89) 3(0,6.35) 4(0,3.81) 5(0,1.27) 6(0,-1.27) 7(0,-3.81) 8(0,-6.35) 9(0,-8.89) 10(0,-11.43)
Top Overlay:
  lines w0.2: -3.4,-12.88 -3.4,12.88 2.8,12.88 2.8,-12.88 -3.4,-12.88
Bottom Overlay:
  region: 0,12.54 -0.5,13.406 0.5,13.406
Mechanical 1:
  lines w0.05: 1.55,-6.35 1.55,-5.08 1.8,-5.08 1.8,5.08 1.55,5.08 1.55,6.35 ; 1.65,-6.35 1.3,-6.35 1.3,-11.43 2.6,-11.43 ; 1.65,-5.08 1.65,-11.43 2.05,-10.63 ; 1.65,5.08 1.65,11.43 2.05,10.63 ; 1.65,6.35 1.3,6.35 1.3,11.43 2.6,11.43 ; 2.6,-10.63 2.05,-10.63 ; 2.6,10.63 2.05,10.63 ; -0.32,-11.75 -0.32,-11.11 ; -0.32,-11.75 -0.25,-11.68 ; -0.32,-11.75 0.32,-11.75 ; -0.32,-11.11 0.32,-11.11 ; -0.32,-11.11 -0.25,-11.18 ; -0.32,-9.21 -0.32,-8.57 ; -0.32,-9.21 -0.25,-9.14 ; -0.32,-9.21 0.32,-9.21 ; -0.32,-8.57 -0.25,-8.64 ; -0.32,-8.57 0.32,-8.57 ; -0.32,-6.67 -0.32,-6.03 ; -0.32,-6.67 -0.25,-6.6 ; -0.32,-6.67 0.32,-6.67 ; -0.32,-6.03 0.32,-6.03 ; -0.32,-6.03 -0.25,-6.1 ; -0.32,-4.13 -0.32,-3.49 ; -0.32,-4.13 -0.25,-4.06 ; -0.32,-4.13 0.32,-4.13 ; -0.32,-3.49 0.32,-3.49 ; -0.32,-3.49 -0.25,-3.56 ; -0.32,-1.59 -0.32,-0.95 ; -0.32,-1.59 -0.25,-1.52 ; -0.32,-1.59 0.32,-1.59 ; -0.32,-0.95 -0.25,-1.02 ; -0.32,-0.95 0.32,-0.95 ; -0.32,0.95 -0.32,1.59 ; -0.32,0.95 -0.25,1.02 ; -0.32,0.95 0.32,0.95 ; -0.32,1.59 0.32,1.59 ; -0.32,1.59 -0.25,1.52 ; -0.32,3.49 -0.32,4.13 ; -0.32,3.49 -0.25,3.56 ; -0.32,3.49 0.32,3.49 ; -0.32,4.13 0.32,4.13 ; -0.32,4.13 -0.25,4.06 ; -0.32,6.03 -0.32,6.67 ; -0.32,6.03 -0.25,6.1 ; -0.32,6.03 0.32,6.03 ; -0.32,6.67 0.32,6.67 ; -0.32,6.67 -0.25,6.6 ; -0.32,8.57 -0.32,9.21 ; -0.32,8.57 -0.25,8.64 ; -0.32,8.57 0.32,8.57 ; -0.32,9.21 0.32,9.21 ; -0.32,9.21 -0.25,9.14 ; -0.32,11.11 -0.32,11.75 ; -0.32,11.11 -0.25,11.18 ; -0.32,11.11 0.32,11.11 ; -0.32,11.75 -0.25,11.68 ; -0.32,11.75 0.32,11.75 ; -0.25,-11.68 -0.25,-11.18 ; -0.25,-11.68 0.25,-11.68 ; -0.25,-11.18 0.25,-11.18 ; -0.25,-9.14 0.25,-9.14 ; -0.25,-9.14 -0.25,-8.64 ; -0.25,-8.64 0.25,-8.64 ; -0.25,-6.6 0.25,-6.6 ; -0.25,-6.6 -0.25,-6.1 ; -0.25,-6.1 0.25,-6.1 ; -0.25,-4.06 -0.25,-3.56 ; -0.25,-4.06 0.25,-4.06 ; -0.25,-3.56 0.25,-3.56 ; -0.25,-1.52 -0.25,-1.02 ; -0.25,-1.52 0.25,-1.52 ; -0.25,-1.02 0.25,-1.02 ; -0.25,1.02 -0.25,1.52 ; -0.25,1.02 0.25,1.02 ; -0.25,1.52 0.25,1.52 ; -0.25,3.56 -0.25,4.06 ; -0.25,3.56 0.25,3.56 ; -0.25,4.06 0.25,4.06 ; -0.25,6.1 -0.25,6.6 ; -0.25,6.1 0.25,6.1 ; -0.25,6.6 0.25,6.6 ; -0.25,8.64 -0.25,9.14 ; -0.25,8.64 0.25,8.64 ; -0.25,9.14 0.25,9.14 ; -0.25,11.18 -0.25,11.68 ; -0.25,11.18 0.25,11.18 ; -0.25,11.68 0.25,11.68 ; 0.25,-11.68 0.25,-11.18 ; 0.25,-11.68 0.32,-11.75 ; 0.25,-11.18 0.32,-11.11 ; 0.25,-9.14 0.25,-8.64 ; 0.25,-9.14 0.32,-9.21 ; 0.25,-8.64 0.32,-8.57 ; 0.25,-6.6 0.25,-6.1 ; 0.25,-6.6 0.32,-6.67 ; 0.25,-6.1 0.32,-6.03 ; 0.25,-4.06 0.25,-3.56 ; 0.25,-4.06 0.32,-4.13 ; 0.25,-3.56 0.32,-3.49 ; 0.25,-1.52 0.25,-1.02 ; 0.25,-1.52 0.32,-1.59 ; 0.25,-1.02 0.32,-0.95 ; 0.25,1.02 0.25,1.52 ; 0.25,1.02 0.32,0.95 ; 0.25,1.52 0.32,1.59 ; 0.25,3.56 0.25,4.06 ; 0.25,3.56 0.32,3.49 ; 0.25,4.06 0.32,4.13 ; 0.25,6.1 0.25,6.6 ; 0.25,6.1 0.32,6.03 ; 0.25,6.6 0.32,6.67 ; 0.25,8.64 0.25,9.14 ; 0.25,8.64 0.32,8.57 ; 0.25,9.14 0.32,9.21 ; 0.25,11.18 0.25,11.68 ; 0.25,11.18 0.32,11.11 ; 0.25,11.68 0.32,11.75 ; 0.32,-11.75 0.32,-11.11 ; 0.32,-9.21 0.32,-8.57 ; 0.32,-6.67 0.32,-6.03 ; 0.32,-4.13 0.32,-3.49 ; 0.32,-1.59 0.32,-0.95 ; 0.32,0.95 0.32,1.59 ; 0.32,3.49 0.32,4.13 ; 0.32,6.03 0.32,6.67 ; 0.32,8.57 0.32,9.21 ; 0.32,11.11 0.32,11.75 ; 2.05,-10.63 2.05,10.63 ; -3.2,-12.7 2.6,-12.7 2.6,12.7 -3.2,12.7 -3.2,-12.7
Mechanical 15:
  lines w0.05: -3.7,-13.18 -3.7,13.18 3.1,13.18 3.1,-13.18 -3.7,-13.18
  lines w0.1: -0.5,0 0.5,0 ; 0,-0.5 0,0.5
3D body "CI3110P1V00.STEP": height 11.5, standoff -3.4, extent -3.2,-12.7 2.6,12.7

## WF-10R [mm] "WF Header, 10-Lead, 2.54mm Pitch, Right-Angle Mount"
height 5.8
pads (10):
  round 1.8 hole 1.2: 1(0,11.43) 2(0,8.89) 3(0,6.35) 4(0,3.81) 5(0,1.27) 6(0,-1.27) 7(0,-3.81) 8(0,-6.35) 9(0,-8.89) 10(0,-11.43)
Top Overlay:
  region: 0,12.54 -0.5,13.406 0.5,13.406
  lines w0.2: 9,-12.94 1.5,-12.94 1.5,12.94 9,12.94
Mechanical 1:
  drawing of 174 lines, arcs and shapes, not listed
Mechanical 15:
  lines w0.05: -1.2,-13.24 13.5,-13.24 13.5,13.24 -1.2,13.24 -1.2,-13.24
  lines w0.1: -0.5,0 0.5,0 ; 0,-0.5 0,0.5
3D body "CI3110P1H00-NH.STEP": height 5.8, standoff -3.4, extent -0.32,-12.7 13.25,12.7